# Altium footprint library B3B-XH-A(LF)(SN).PcbLib: 1 footprints
Each footprint in its own frame and in the unit in brackets; x right, y up, seen from the top. Pads: shape width x height; smd on the part's side, far side on the other; paste and mask are expansions set on the pad; w line width, h text height; cw(c..) or ccw(c..) is an arc to the next point about the centre after c.
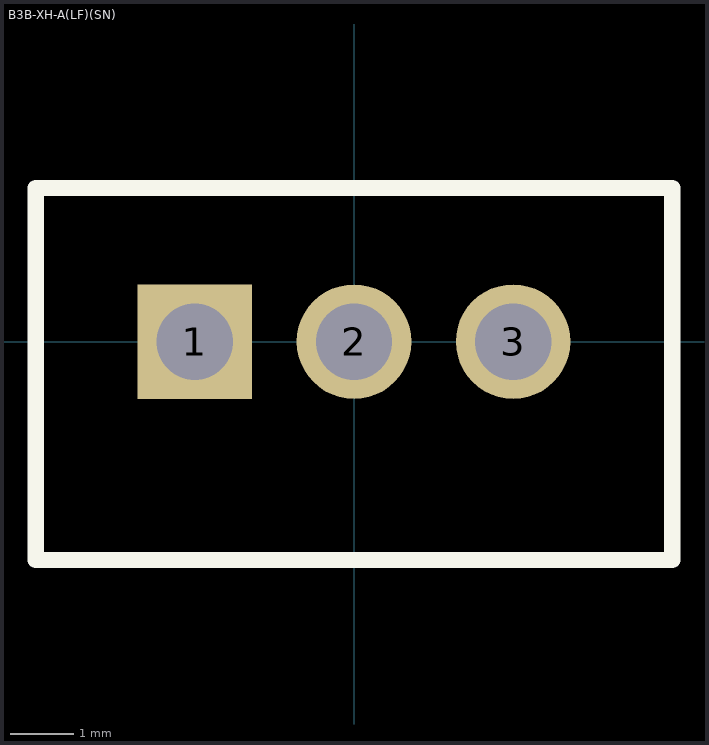
[diagram p0: the footprint, top view; thin cyan lines are the x and y axes]

## B3B-XH-A(LF)(SN) [mm]
height 0.9
pads (3):
  rect 1.8x1.8 hole 1.2: 1(-2.5,0)
  round 1.8 hole 1.2: 2(0,0) 3(2.5,0)
Top Overlay:
  lines w0.254: -5,-3.429 5,-3.429 5,2.413 -5,2.413 -5,-3.429
Top Assembly:
  lines w0.1: -5,-3.425 -5,2.4 5,2.4 5,-3.425 -5,-3.425
  text "'.Designator'" at -0.95,0.075 h0.7
3D body "User Library-B3B-XH-A.STEP": height 7.1, standoff -3.3, extent -4.95,-3.4 4.95,2.35